# Altium schematic symbol library 284415-2.SchLib: 1 symbol
Pins are listed as number, name and electrical type; pins without a type are passive.

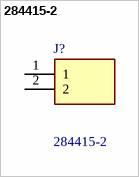
[diagram p0: symbol 284415-2]

## 284415-2
designator J?
2 Position Wire to Board Terminal Block Vertical with Board 0.150" (3.81mm) Through Hole; Manufacturer_Name: TE Connectivity; Geometry.Height: 7.7mm; Manufacturer_Part_Number: 284415-2; Mouser Part Number: 571-284415-2; Mouser Price/Stock: https://www.mouser.co.uk/ProductDetail/TE-Connectivity/284415-2?qs=pW%2FyRk%2FT1EFeoMncfiUpUA%3D%3D; Arrow Part Number: *; Arrow Price/Stock: *; Datasheet Link: https://www.te.com/commerce/DocumentDelivery/DDEController?Action=showdoc&DocId=Customer+Drawing%7F284415%7FD%7Fpdf%7FEnglish%7FENG_CD_284415_D.pdf%7F284415-2
footprint 2844152
pins: 1, 2